# Altium footprint library 79l05.PcbLib: 1 footprints
Each footprint in its own frame and in the unit in brackets; x right, y up, seen from the top. Pads: shape width x height; smd on the part's side, far side on the other; paste and mask are expansions set on the pad; w line width, h text height; cw(c..) or ccw(c..) is an arc to the next point about the centre after c.
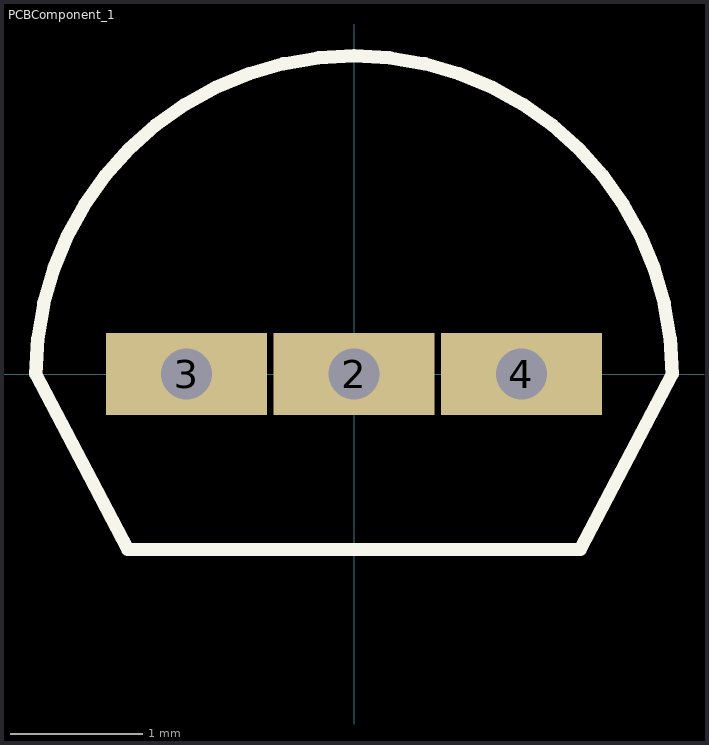
[diagram p0: the footprint, top view; thin cyan lines are the x and y axes]

## PCBComponent_1 [mm]
pads (3):
  rect 1.22x0.62 hole 0.39 square: 2(0,0) 3(-1.27,0) 4(1.27,0)
Top Overlay:
  lines w0.1: -2.412,0 cw(c0,0) 2.412,0 1.715,-1.33 -1.715,-1.33 -2.412,0